# EAGLE library part L78L09ABD13TR (library ST Microelectronics)
POSITIVE VOLTAGE REGULATORS
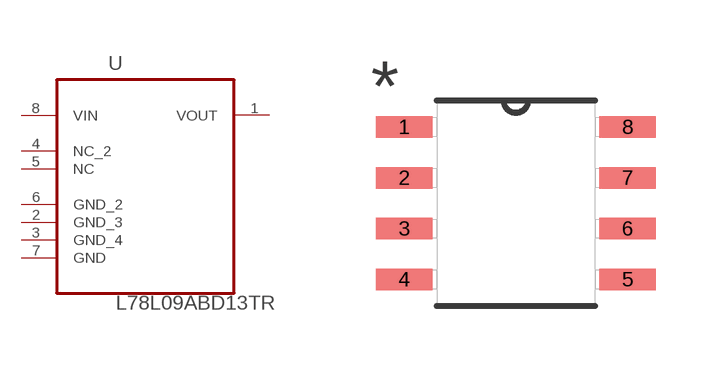
[diagram p59: symbol with the pads of SOIC127P600X175-8N; footprint SOIC127P600X175-8N]

Designator prefix U

## L78L09ABD13TR (MPN: L78L09ABD13TR; OC_FARNELL: 1087107; OC_NEWARK: 26M0539; PACKAGE: SOIC-8; SUPPLIER: STMICROELECTRONICS)  [SOIC127P600X175-8N]
1  VOUT  out
2  GND_3  pas
3  GND_4  pas
4  NC_2  nc
5  NC  nc
6  GND_2  pas
7  GND  pas
8  VIN  pwr

## Footprint SOIC127P600X175-8N (pad centres in mm)
smd 1.422 x 0.533: 1 -2.794,1.905; 2 -2.794,0.635; 3 -2.794,-0.635; 4 -2.794,-1.905; 5 2.794,-1.905; 6 2.794,-0.635; 7 2.794,0.635; 8 2.794,1.905